# EAGLE library part TFDT4500 (library SIR-TFDU4100_TFDS4500_TFDT4500)
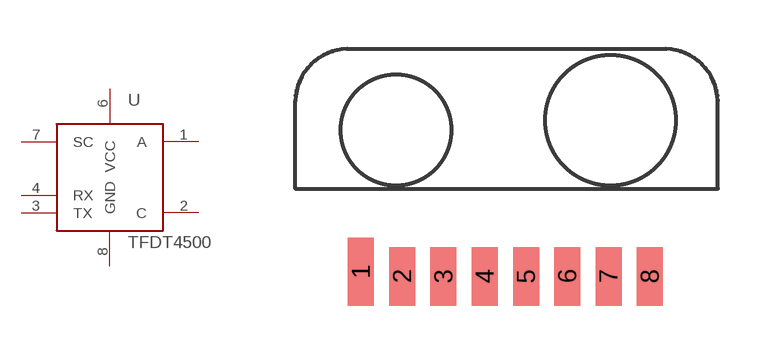
[diagram p1: symbol with the pads of T; footprint T]

Designator prefix -

## TFDT4500  [T]
1  A
2  C
3  TX  in
4  RX  out
6  VCC  pwr
7  SC  in
8  GND  sup

## Footprint T (pad centres in mm)
TFDT4500 Top View
smd 0.8 x 2.1: 1 -3.81,0.14
smd 0.8 x 1.8: 2 -2.54,0; 3 -1.27,0; 4 0,0; 5 1.27,0; 6 2.54,0; 7 3.81,0; 8 5.08,0